# EAGLE library part TXB0102 (library pixhawk2-import)
2-BIT BIDIRECTIONAL VOLTAGE-LEVEL TRANSLATOR WITH AUTO DIRECTION SENSING AND ±15-kV ESD PROTECTION
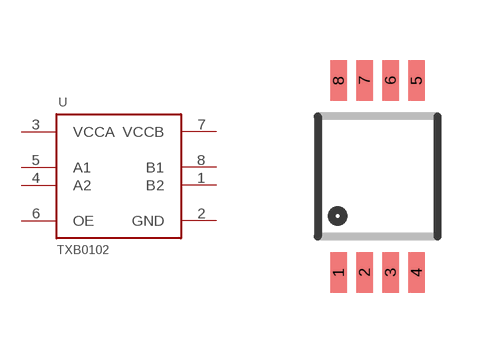
[diagram p9: symbol with the pads of MSOP-8; footprint MSOP-8]

Designator prefix U

## TXB0102  [MSOP-8]
1  B2
2  GND  sup
3  VCCA  sup
4  A2
5  A1
6  OE  in
7  VCCB  sup
8  B1

## Footprint MSOP-8 (pad centres in mm)
smd 0.41 x 1.02: 1 -0.975,-2.4; 2 -0.325,-2.4; 3 0.325,-2.4; 4 0.975,-2.4; 5 0.975,2.4; 6 0.325,2.4; 7 -0.325,2.4; 8 -0.975,2.4